# Altium schematic symbol library BM04B-NSHSS-TBT.SchLib: 1 symbol
Pins are listed as number, name and electrical type; pins without a type are passive.

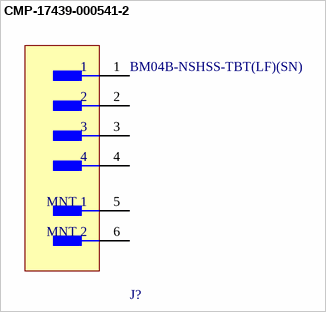
[diagram p0: symbol CMP-17439-000541-2]

## CMP-17439-000541-2
designator J?, comment BM04B-NSHSS-TBT(LF)(SN)
CONN HEADER SMD 4POS 1MM; NexarPartId: 51454039; Number of Contacts: 4; Connector Type: Outer Shroud Contact; Voltage Rating: 50V; Pitch: 990.6µm; Current Rating: 1A; Height: 6mm; Lead Free: Lead Free; Termination: Solder; Max Operating Temperature: 85°C; Packaging: Tape & Reel (TR); Number of Positions: 4; Color: Natural; RoHS: Compliant; Fastening Type: Latch; Mount: Surface Mount; Contact Plating: Tin; Number of Rows: 1; Contact Material: Copper, Tin; Min Operating Temperature: -25°C
footprint FP-BM04B-NSHSS-TBT_LF_S-MFG
pins: 1, 2, 3, 4, 5 MNT 1, 6 MNT 2